# Altium footprint library TE-1734248-7.PcbLib: 1 footprints
Each footprint in its own frame and in the unit in brackets; x right, y up, seen from the top. Pads: shape width x height; smd on the part's side, far side on the other; paste and mask are expansions set on the pad; w line width, h text height; cw(c..) or ccw(c..) is an arc to the next point about the centre after c.
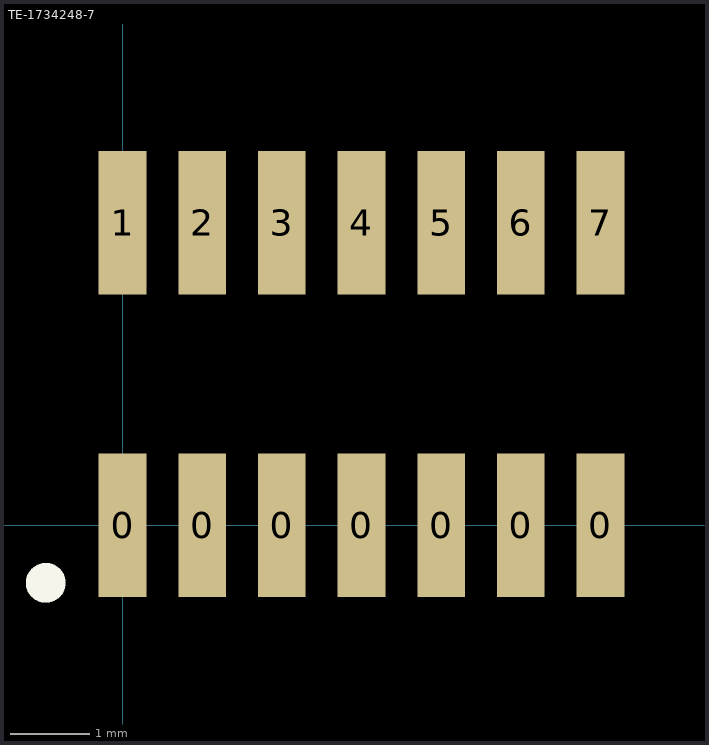
[diagram p0: the footprint, top view; thin cyan lines are the x and y axes]

## TE-1734248-7 [mm]
pads (14):
  rect 0.6x1.8 smd: 0(0,0) 0(1,0) 0(2,0) 0(3,0) 0(4,0) 0(5,0) 0(6,0) 1(0,3.8) 2(1,3.8) 3(2,3.8) 4(3,3.8) 5(4,3.8) 6(5,3.8) 7(6,3.8)
Top Overlay:
  circle w0.25: c-0.963,-0.721 r0.125
3D body: height 5.68, standoff 0, extent -4.215,-0.495 10.185,4.355